# EAGLE library part SDF-50J (library SDF-50J)
Conn Circular DIN F 5 POS Solder RA Thru-Hole 5 Terminal 1 Port
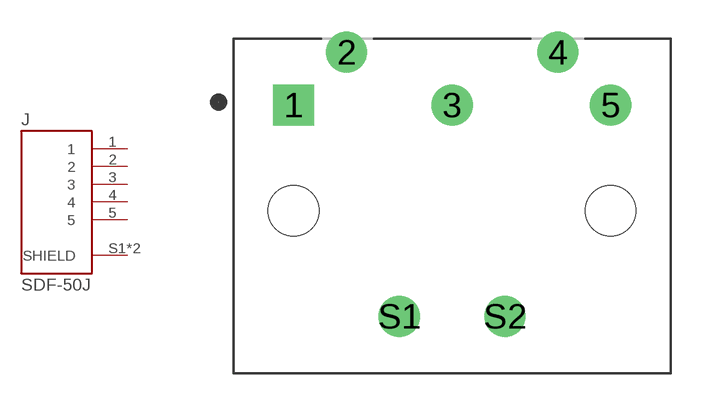
[diagram p0: symbol with the pads of CUI_SDF-50J; footprint CUI_SDF-50J]

Designator prefix J

## SDF-50J (AVAILABILITY: Unavailable; CUI_PURCHASE_URL: https://www.cuidevices.com/product/interconnect/connectors/din-connectors/sdf-j-series?utm_source=snapeda.com&utm_medium=referral&utm_campaign=snapedaBOM; DESCRIPTION: 3~13 Positions, Receptacle, Right Angle, Through Hole, Shielded, Standard Circular DIN Connector; MF: CUI Devices; MP: SDF-50J; PACKAGE: None; PRICE: None)  [CUI_SDF-50J]
1  1  pas
2  2  pas
3  3  pas
4  4  pas
5  5  pas
S1  SHIELD  pwr
S2  SHIELD  pwr

## Footprint CUI_SDF-50J (pad centres in mm)
drill 1.3 square: 1 -7.5,4.775
drill 1.3: 2 -5,7.275; 3 0,4.775; 4 5,7.275; 5 7.5,4.775; S1 -2.5,-5.225; S2 2.5,-5.225
hole 2.4 at -7.5,-0.225
hole 2.4 at 7.5,-0.225